# Altium schematic symbol library Cuon Cam.SchLib: 29 symbols
Pins are listed as number, name and electrical type; pins without a type are passive.

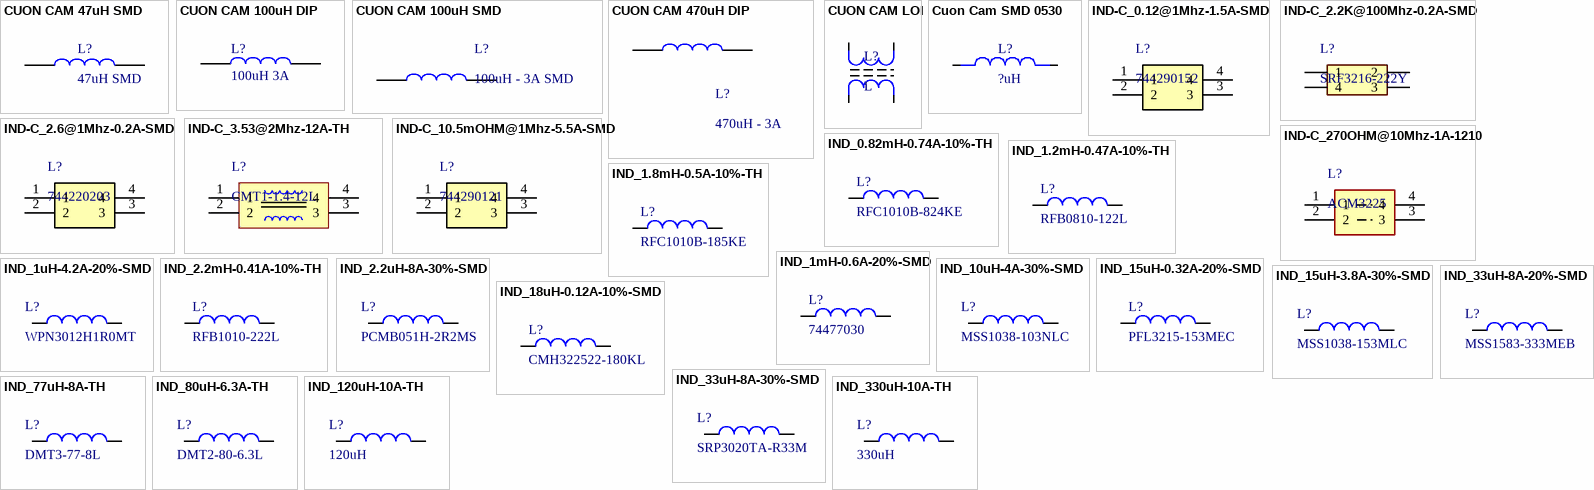
[diagram p0: symbols CUON CAM 47uH SMD to IND_330uH-10A-TH]

## CUON CAM 47uH SMD
designator L?, comment 47uH SMD
Dán; Don_Vi: Con; Ma_Hang: MH004211; Ten_Linh_Kien: Cuộn Cảm 47uH 7x7x4MM CD74R; Ghi_Chu: *; Kieu_Chan: *; Chung_Loai: Dán
footprint Cuon Cam 7x7x5
pins: 1, 2

## CUON CAM 100uH DIP
designator L?, comment 100uH 3A
Dán; Don_Vi: Con; Ma_Hang: MH002209; Ten_Linh_Kien: Cuộn Cảm 100uH 3A 8x10MM; Chung_Loai: Dán; Ghi Chu: *; Kieu Chan: *
footprint CUON CAM 100uH3A (100uH3A)
pins: 1, 2

## CUON CAM 100uH SMD
designator L?, comment 100uH - 3A SMD
Dán; Don_Vi: Con; Ma_Hang: MH003999; Ten_Linh_Kien: Cuộn Cảm 100uH 7x7x4MM CD74; Ma_Hang: *; Kieu_Chan: *; Chung_Loai: Dán
footprint Cuon Cam 12x12x10
pins: 1, 2

## CUON CAM 470uH DIP
designator L?, comment 470uH - 3A
Cắm; Don_Vi: Con; Ma_Hang: MH002232; Ten_Linh_Kien: Cuộn Cảm 470uH 3A 8x10MM; Ghi_Chu: *; Kieu_Chan: *; Chung_Loai: Cắm
footprint CUON CAM 100uH3A (100uH3A)
pins: 1, 2

## CUON CAM LOI
designator L?, comment L
CUON CAM LOI; Value: Loc 220; Designed by: VanDungEvn
footprint L2x220 (Footprint not found)
pins: 1, 2, 3, 4

## Cuon Cam SMD 0530
designator L?, comment ?uH
SMD 0530; MP: FDV0530-H-1R5M=P3; Package: None; Price: None; Value: *; Availability: Unavailable
footprint CUON CAM SMD 0530
pins: 1, 2

## IND-C_0.12@1Mhz-1.5A-SMD
designator L?, comment 744290152
1.5mH @ 10kHz 2 Line Common Mode Choke Surface Mount 1.5A DCR 120mOhm; Manufacturer: WE; Alternate Part Number-1: NA; Manufacturer Part Number: 744290152; Case/Package: SMD; Supplier-1: WURTH; Supplier Part Number-1: 744290152
footprint IND_100_705_63X110_SMD (CASE: SMD)
pins: 1, 2, 3, 4

## IND-C_2.2K@100Mhz-0.2A-SMD
designator L?, comment SRF3216-222Y
2 Line Common Mode Choke Surface Mount 2.2 kOhms @ 100MHz 200mA DCR 1.2Ohm; Manufacturer: WE; Alternate Part Number-1: NA; Manufacturer Part Number: SRF3216-222Y; Case/Package: SMD; Supplier-1: ARROW; Supplier Part Number-1: SRF3216-222Y
footprint IND_39.3_150_23X35_SMD (Inductor)
pins: 1, 2, 3, 4

## IND-C_2.6@1Mhz-0.2A-SMD
designator L?, comment 744220203
WE-SL2 SMD inductance with ferrite core, 4.7 mH / ± 50%, 100kHz 500mA; Manufacturer: Bourns; Alternate Part Number-1: NA; Manufacturer Part Number: 744220203; Case/Package: SMD; Supplier-1: WURTH; Supplier Part Number-1: 744220203
footprint IND_100_410_59X110_SMD (CASE: SMD)
pins: 1, 2, 3, 4

## IND-C_3.53@2Mhz-12A-TH
designator L?, comment CMT1-1.4-12L
IND-C_3.53@2Mhz-12A-TH; Manufacturer: WE; Alternate Part Number-1: NA; Manufacturer Part Number: CMT1-1.4-12L; Case/Package: TH; Supplier-1: COILCRAFT SAMPLE; Supplier Part Number-1: CMT1-1.4-12L
footprint CMT1_1.4_12L
pins: 1, 2, 3, 4

## IND-C_10.5mOHM@1Mhz-5.5A-SMD
designator L?, comment 744290121
120µH @ 10kHz 2 Line Common Mode Choke Surface Mount 5.5A DCR 10.5mOhm /; Manufacturer: TDK; Alternate Part Number-1: NA; Manufacturer Part Number: 744290121; Case/Package: SMD; Supplier-1: WURTH; Supplier Part Number-1: 744290121
footprint IND_100_705_63X110_SMD (CASE: SMD)
pins: 1, 2, 3, 4

## IND-C_270OHM@10Mhz-1A-1210
designator L?, comment ACM3225
2 Line Common Mode Choke Surface Mount 600 Ohms @ 100MHz 1A DCR 200mOhm; Manufacturer: Coilcraft; Manufacturer Part Number: ACM3225-601-2P-T001; Alternate Part Number-1: NA; Case/Package: 1210; Supplier-1: Coilcraft; Supplier Part Number-1: ACM3225-601-2P-T001
footprint IND_1206_SMD_4PIN (CASE: SMD)
pins: 1, 2, 3, 4

## IND_0.82mH-0.74A-10%-TH
designator L?, comment RFC1010B-824KE
Fixed Inductors AEC-Q200 1200uH 100kHz 2.1mOhms; Manufacturer: Coilcraft; Alternate Part Number-1: NA; Manufacturer Part Number: RFC1010B-824KE; Case/Package: TH; Supplier-1: COILCRAFT SAMPLE; Supplier Part Number-1: RFC1010B-824KE
footprint IND_P236_D433_H452_70X59_TH (Inductor)
pins: 1, 2

## IND_1.2mH-0.47A-10%-TH
designator L?, comment RFB0810-122L
Fixed Inductors RFB0810 AEC-Q200 100kHz 2.8mOhms; Manufacturer: Coilcraft; Alternate Part Number-1: NA; Manufacturer Part Number: RFB0810-122L; Case/Package: TH; Supplier-1: COILCRAFT SAMPLE; Supplier Part Number-1: RFB0810-122L
footprint IND_P220_D378_H452_70X59_TH (Inductor)
pins: 1, 2

## IND_1.8mH-0.5A-10%-TH
designator L?, comment RFC1010B-185KE
Fixed Inductors AEC-Q200 1800uH 100kHz 3.5mOhms; Manufacturer: Coilcraft; Alternate Part Number-1: NA; Manufacturer Part Number: RFC1010B-185KE; Case/Package: TH; Supplier-1: COILCRAFT SAMPLE; Supplier Part Number-1: RFC1010B-185KE
footprint IND_P236_D433_H452_70X59_TH (Inductor)
pins: 1, 2

## IND_1mH-0.6A-20%-SMD
designator L?, comment 74477030
1mH Shielded Wirewound Inductor 600mA 1.82Ohm Max Nonstandard; Manufacturer: Coilcraft; Alternate Part Number-1: NA; Manufacturer Part Number: 74477030; Case/Package: SMD; Supplier-1: WURTH; Supplier Part Number-1: 74477030
footprint IND_400_500_212x114_SMD (wurth inductor)
pins: 1, 2

## IND_1uH-4.2A-20%-SMD
designator L?, comment WPN3012H1R0MT
Fixed Inductors WPN3012H1R0MT 100kHz; Manufacturer: Sunlord; Alternate Part Number-1: NA; Manufacturer Part Number: WPN3012H1R0MT; Case/Package: SMD; Supplier-1: NA; Supplier Part Number-1: NA
footprint IND_90.5_141.7_125X31_SMD (Inductor)
pins: 1, 2

## IND_2.2mH-0.41A-10%-TH
designator L?, comment RFB1010-222L
Fixed Inductors AEC-Q200 2200uH 100kHz 4.1mOhms; Manufacturer: Coilcraft; Alternate Part Number-1: NA; Manufacturer Part Number: RFB1010-222L; Case/Package: TH; Supplier-1: ARROW; Supplier Part Number-1: RFB1010-222L
footprint IND_P236_D433_H452_70X59_TH (Inductor)
pins: 1, 2

## IND_2.2uH-8A-30%-SMD
designator L?, comment PCMB051H-2R2MS
Fixed Inductors PCMB051H-2R2MS Shielded 2.2 uH 30 % 8A; Manufacturer: susumu; Alternate Part Number-1: NA; Manufacturer Part Number: PCMB051H-2R2MS; Case/Package: SMD; Supplier-1: NA; Supplier Part Number-1: NA
footprint IND_259_338_140X70_SMD (Inductor)
pins: 1, 2

## IND_10uH-4A-30%-SMD
designator L?, comment MSS1038-103NLC
Fixed Inductors MSS1038 SMT Shielded 10 uH 30 % 4.05 A; Manufacturer: Coilcraft; Alternate Part Number-1: NA; Manufacturer Part Number: MSS1038-103NLC; Case/Package: SMD; Supplier-1: COILCRAFT SAMPLE; Supplier Part Number-1: MSS1038-103NLB
footprint IND_370_401_140X70_SMD (SMD INDUCTOR)
pins: 1, 2

## IND_15uH-0.32A-20%-SMD
designator L?, comment PFL3215-153MEC
Fixed Inductors, shielded, 20% tol, SMT, RoHS, halogen-free; Manufacturer: Coilcraft; Manufacturer Part Number: PFL3215-153MEB; Alternate Part Number-1: NA; Case/Package: SMD; Supplier-1: COILCRAFT SAMPLE; Supplier Part Number-1: PFL3215-153MEB
footprint IND_107_149_100X35_SMD (Inductor)
pins: 1, 2

## IND_15uH-3.8A-30%-SMD
designator L?, comment MSS1038-153MLC
Fixed Inductors MSS1038 SMT Shielded 15 uH 20 % 3.8 A; Manufacturer: Bourns; Alternate Part Number-1: NA; Manufacturer Part Number: MSS1038-153MLC; Case/Package: SMD; Supplier-1: COILCRAFT SAMPLE; Supplier Part Number-1: MSS1038-153MLC
footprint IND_370_401_140X70_SMD (SMD INDUCTOR)
pins: 1, 2

## IND_18uH-0.12A-10%-SMD
designator L?, comment CMH322522-180KL
Fixed Inductors 18uH 10% 2.52MHz; Manufacturer: Wurth Electronics; Alternate Part Number-1: NA; Manufacturer Part Number: CMH322522-180KL; Case/Package: SMD; Supplier-1: ARROW; Supplier Part Number-1: CMH322522-180KL
footprint IND_1210 (Inductor)
pins: 1, 2

## IND_33uH-8A-20%-SMD
designator L?, comment MSS1583-333MEB
Fixed Inductors MSS1583 SMT Power 0.038Ohms 33uH; Manufacturer: Coilcraft; Alternate Part Number-1: NA; Manufacturer Part Number: MSS1583-333MEB; Case/Package: SMD; Supplier-1: COILCRAFT SAMPLE; Supplier Part Number-1: MSS1583-333MEB
footprint IND_456_640_236X117_SMD (SMD Inductor on Sunrom)
pins: 1, 2

## IND_33uH-8A-30%-SMD
designator L?, comment SRP3020TA-R33M
Fixed Inductors 0.33uH 20% 8A; Manufacturer: Coilcraft; Alternate Part Number-1: NA; Manufacturer Part Number: SRP3020TA-R33M; Case/Package: SMD; Supplier-1: COILCRAFT SAMPLE; Supplier Part Number-1: SER2918H-333KL
footprint IND_456_640_236X117_SMD (SMD Inductor on Sunrom)
pins: 1, 2

## IND_77uH-8A-TH
designator L?, comment DMT3-77-8L
Fixed Inductors DMT1 Power Chokes Toroidal Output; Manufacturer: Coilcraft; Alternate Part Number-1: NA; Manufacturer Part Number: DMT3-77-8L; Case/Package: TH; Supplier-1: COILCRAFT SAMPLE; Supplier Part Number-1: DMT3-77-8L
footprint DMT3_77_8L (CASE: TH)
pins: 1, 4

## IND_80uH-6.3A-TH
designator L?, comment DMT2-80-6.3L
Fixed Inductors DMT1 Power Chokes Toroidal Output; Manufacturer: Bourns; Alternate Part Number-1: NA; Manufacturer Part Number: DMT2-80-6.3L; Case/Package: TH; Supplier-1: COILCRAFT SAMPLE; Supplier Part Number-1: DMT2-80-6.3L
footprint DMT2_80_6.3L (CASE: TH)
pins: 1, 4

## IND_120uH-10A-TH
designator L?, comment 120uH
IND_120uH-10A-0.06@4.6MHz-TH; Manufacturer Part Number: NA; Case/Package: TH; Manufacturer: NA; Supplier-1: SP ROAD; Supplier Part Number-1: NA; Alternate Part Number-1: NA
footprint IND_30.1MM_TH
pins: 1, 2

## IND_330uH-10A-TH
designator L?, comment 330uH
330uH-10A-CHINESE INDUCTOR; Manufacturer Part Number: NA; Case/Package: TH; Manufacturer: NA; Supplier-1: SP ROAD; Supplier Part Number-1: NA; Alternate Part Number-1: NA
footprint IND_30.1MM_TH
pins: 1, 2